# Altium schematic symbol library MBR120VLSFT1G.SchLib: 1 symbol
Pins are listed as number, name and electrical type; pins without a type are passive.

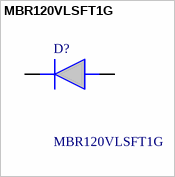
[diagram p0: symbol MBR120VLSFT1G]

## MBR120VLSFT1G
designator D?
Guardring for Stress Protection; Optimized for Very Low Forward Voltage; 125 C Operating Junction Temperature; Epoxy Meets UL94, VO; Package Designed for Optimal Automated Board Assembly; ESD Rated Machine Model C; ESD Rated Human Body Model 3B; Device Meets MSL 1 Requirements; Pb-Free Packages are Available; Manufacturer_Name: onsemi; Geometry.Height: 0.98mm; Mouser Part Number: 863-MBR120VLSFT1G; Mouser Price/Stock: https://www.mouser.co.uk/ProductDetail/onsemi/MBR120VLSFT1G?qs=3JMERSakebpX%252BkItPpFCkg%3D%3D; Manufacturer_Part_Number: MBR120VLSFT1G; Datasheet Link: https://www.onsemi.com/pub/Collateral/MBR120VLSFT1-D.PDF
footprint SODFL3616X98N
pins: 1 K, 2 A